# EAGLE library part YM3812 (library 68komputer)
YM3812 – FM Operator Type-L Ⅱ (OPL2) Datasheet <http://www.symphoniae.com/Yamaha/YSC/YM3812.pdf>
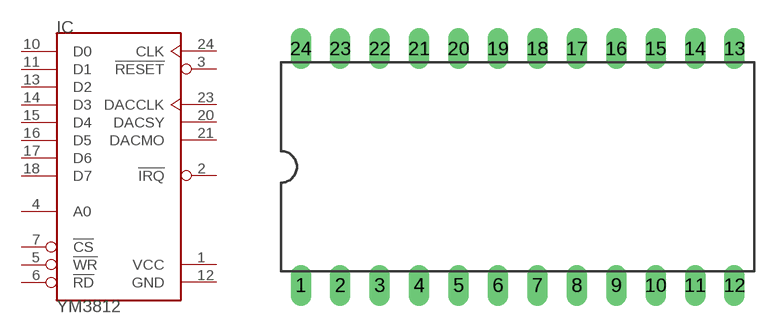
[diagram p27: symbol with the pads of DIL24; footprint DIL24]

Designator prefix IC

## YM3812DIL24 (VALUE: YM3812)  [DIL24]
1  VCC  pwr
2  !IRQ  out
3  !RESET  in
4  A0  in
5  !WR  in
6  !RD  in
7  !CS  in
10  D0
11  D1
12  GND  pwr
13  D2
14  D3
15  D4
16  D5
17  D6
18  D7
20  DACSY  out
21  DACMO  out
23  DACCLK  out
24  CLK  in

## Footprint DIL24 (pad centres in mm)
Dual In Line Package
drill 0.813 long: 1 -13.97,-7.62; 2 -11.43,-7.62; 3 -8.89,-7.62; 4 -6.35,-7.62; 5 -3.81,-7.62; 6 -1.27,-7.62; 7 1.27,-7.62; 8 3.81,-7.62; 9 6.35,-7.62; 10 8.89,-7.62; 11 11.43,-7.62; 12 13.97,-7.62; 13 13.97,7.62; 14 11.43,7.62; 15 8.89,7.62; 16 6.35,7.62; 17 3.81,7.62; 18 1.27,7.62; 19 -1.27,7.62; 20 -3.81,7.62; 21 -6.35,7.62; 22 -8.89,7.62; 23 -11.43,7.62; 24 -13.97,7.62